# EAGLE library part LM2594 (library LM2594)
Power Converter 150kHz 0.5A Step-Down Voltage Regulator
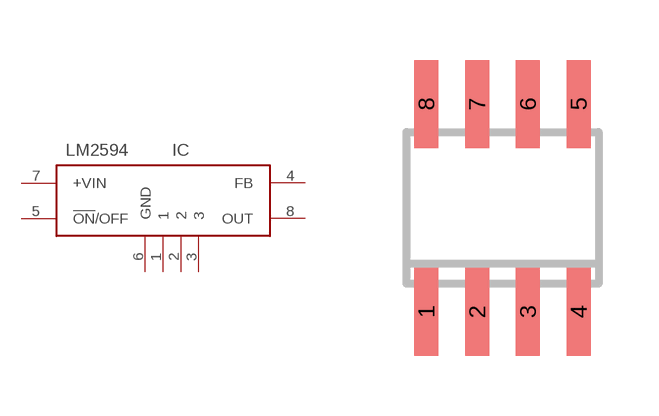
[diagram p0: symbol with the pads of TSOP8; footprint TSOP8]

Designator prefix IC

## LM2594  [TSOP8]
1  1
2  2
3  3
4  FB
5  !ON!/OFF
6  GND
7  +VIN
8  OUT

## Footprint TSOP8 (pad centres in mm)
smd 0.6 x 2.2: 1 -1.905,-2.6; 2 -0.635,-2.6; 3 0.635,-2.6; 4 1.905,-2.6; 5 1.905,2.6; 6 0.635,2.6; 7 -0.635,2.6; 8 -1.905,2.6